# Altium schematic symbol library EPL Scblib.SchLib: 4 symbols
Pins are listed as number, name and electrical type; pins without a type are passive.

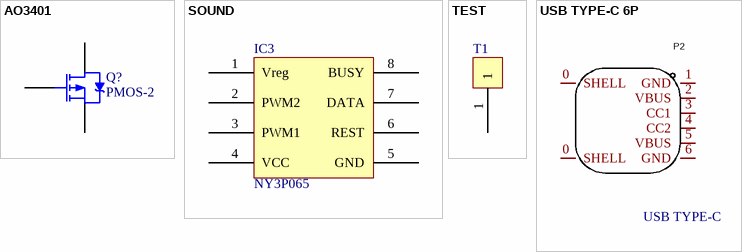
[diagram p0: symbols AO3401 to USB TYPE-C 6P]

## AO3401
designator Q?, comment PMOS-2
P-Channel Power MOSFET; Note: Pin 4 not drawn and electrically connected to Pin 2.; Published: 8-Jun-2000; LatestRevisionDate: 17-Jul-2002; LatestRevisionNote: Re-released for DXP Platform.; DatasheetDocument: PD-9.390D; PackageReference: TO-220AB; Publisher: Altium Limited; Code_JEDEC: TO-220-AB; ComponentLink1Description: Manufacturer Link; ComponentLink1URL: http://www.irf.com/
footprint TO-220AB (TO, Thru-Hole, Vertical, Heatsink Mounted; 3 In-Line Leads; Pitch 2.54 mm)
simulation model IRF9510 (Spice Subcircuit)
pins: 1 G, 2 S, 3 D

## SOUND
designator IC3, comment NY3P065
footprint SO8MY
pins: 1 Vreg, 2 PWM2, 3 PWM1, 4 VCC, 5 GND, 6 REST, 7 DATA, 8 BUSY

## TEST
designator T1  (value not drawn)
footprint SIP1
pins: 1

## USB TYPE-C 6P
designator P2, comment USB TYPE-C
Symbol: TYPE-C 6P CB1.6(073); Add into BOM: yes; Number of Ports: 1; Number of Contacts: 6P; Current Rating - Power (Max): 5A; Device: TYPE-C 6P CB1.6(073); Supplier Part: C2858274; Manufacturer Part: TYPE-C 6P CB1.6(073); Supplier Footprint: SMD; JLCPCB Part Class: Extended Part; Datasheet: https://atta.szlcsc.com/upload/public/pdf/source/20220408/7E0E465C11F85B3C51A520D1219A5616.pdf; Supplier: LCSC; Convert to PCB: yes; Connector Type: Type-C; Standard: -
footprint USB-C-SMD_TYPE-C-6PCB1.6-073
pins: 0 SHELL, 0 SHELL, 1 GND, 2 VBUS, 3 CC1, 4 CC2, 5 VBUS, 6 GND